# EAGLE library part MAX4374-10SO (library space-concordia-power)
MAX4374 Low power, High side, Rsense current comparator active high, latchable output secondary comparator available SOIC14 package
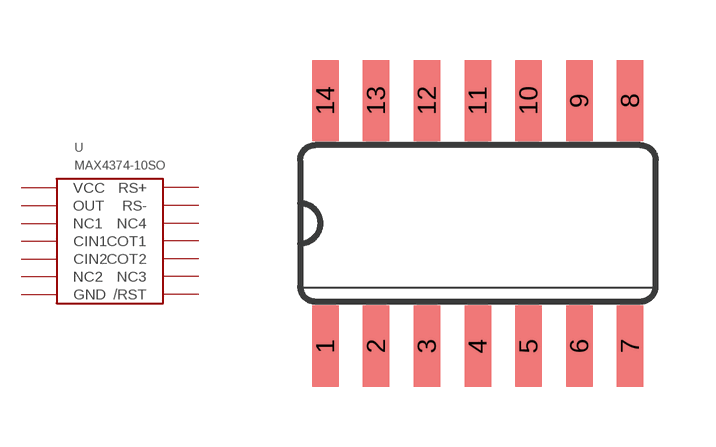
[diagram p8: symbol with the pads of SO14; footprint SO14]

Designator prefix -

## MAX4374-10SO  [SO14]
1  VCC
2  OUT
3  NC1
4  CIN1
5  CIN2
6  NC2
7  GND
8  /RST
9  NC3
10  COT2
11  COT1
12  NC4
13  RS-
14  RS+

## Footprint SO14 (pad centres in mm)
Small Outline Package
smd 0.66 x 2.032: 1 -3.81,-3.073; 2 -2.54,-3.073; 3 -1.27,-3.073; 4 0,-3.073; 5 1.27,-3.073; 6 2.54,-3.073; 7 3.81,-3.073; 8 3.81,3.073; 9 2.54,3.073; 10 1.27,3.073; 11 0,3.073; 12 -1.27,3.073; 13 -2.54,3.073; 14 -3.81,3.073